# EAGLE library part TLW-133-06-G-D (library SAMTEC-Txx_By_element14_Batch_1)
LOW PROFILE HEADER, DOUBLE ROW, 66 way
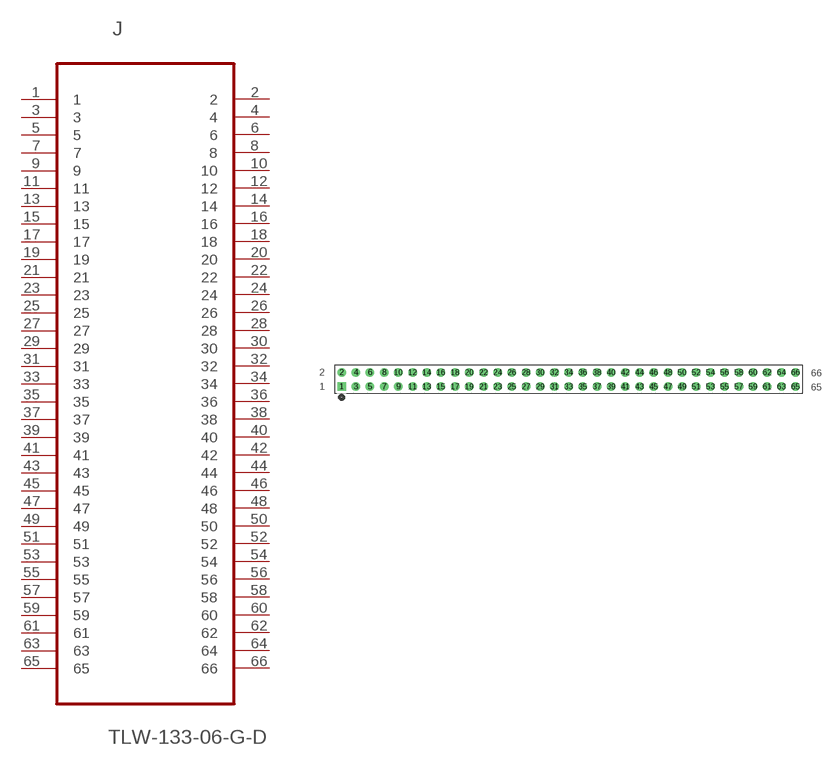
[diagram p356: symbol with the pads of SAMTEC_TLW-133-06-G-D; footprint SAMTEC_TLW-133-06-G-D]

Designator prefix J

## TLW-133-06-G-D (MPN: TLW-133-06-G-D; OC_FARNELL: -; OC_NEWARK: 12P0601; PACKAGE: LOW PROFILE HEADER; SUPPLIER: SAMTEC)  [SAMTEC_TLW-133-06-G-D]
1  1  pas
2  2  pas
3  3  pas
4  4  pas
5  5  pas
6  6  pas
7  7  pas
8  8  pas
9  9  pas
10  10  pas
11  11  pas
12  12  pas
13  13  pas
14  14  pas
15  15  pas
16  16  pas
17  17  pas
18  18  pas
19  19  pas
20  20  pas
21  21  pas
22  22  pas
23  23  pas
24  24  pas
25  25  pas
26  26  pas
27  27  pas
28  28  pas
29  29  pas
30  30  pas
31  31  pas
32  32  pas
33  33  pas
34  34  pas
35  35  pas
36  36  pas
37  37  pas
38  38  pas
39  39  pas
40  40  pas
41  41  pas
42  42  pas
43  43  pas
44  44  pas
45  45  pas
46  46  pas
47  47  pas
48  48  pas
49  49  pas
50  50  pas
51  51  pas
52  52  pas
53  53  pas
54  54  pas
55  55  pas
56  56  pas
57  57  pas
58  58  pas
59  59  pas
60  60  pas
61  61  pas
62  62  pas
63  63  pas
64  64  pas
65  65  pas
66  66  pas

## Footprint SAMTEC_TLW-133-06-G-D (pad centres in mm)
drill 1.016 square: 1 -81.28,-2.54
drill 1.016: 2 -81.28,0; 3 -78.74,-2.54; 4 -78.74,0; 5 -76.2,-2.54; 6 -76.2,0; 7 -73.66,-2.54; 8 -73.66,0; 9 -71.12,-2.54; 10 -71.12,0; 11 -68.58,-2.54; 12 -68.58,0; 13 -66.04,-2.54; 14 -66.04,0; 15 -63.5,-2.54; 16 -63.5,0; 17 -60.96,-2.54; 18 -60.96,0; 19 -58.42,-2.54; 20 -58.42,0; 21 -55.88,-2.54; 22 -55.88,0; 23 -53.34,-2.54; 24 -53.34,0; 25 -50.8,-2.54; 26 -50.8,0; 27 -48.26,-2.54; 28 -48.26,0; 29 -45.72,-2.54; 30 -45.72,0; 31 -43.18,-2.54; 32 -43.18,0; 33 -40.64,-2.54; 34 -40.64,0; 35 -38.1,-2.54; 36 -38.1,0; 37 -35.56,-2.54; 38 -35.56,0; 39 -33.02,-2.54; 40 -33.02,0; 41 -30.48,-2.54; 42 -30.48,0; 43 -27.94,-2.54; 44 -27.94,0; 45 -25.4,-2.54; 46 -25.4,0; 47 -22.86,-2.54; 48 -22.86,0; 49 -20.32,-2.54; 50 -20.32,0; 51 -17.78,-2.54; 52 -17.78,0; 53 -15.24,-2.54; 54 -15.24,0; 55 -12.7,-2.54; 56 -12.7,0; 57 -10.16,-2.54; 58 -10.16,0; 59 -7.62,-2.54; 60 -7.62,0; 61 -5.08,-2.54; 62 -5.08,0; 63 -2.54,-2.54; 64 -2.54,0; 65 0,-2.54; 66 0,0